# Altium integrated library ECS-100AX-010.IntLib: 1 symbol
Pins are listed as number, name and electrical type; pins without a type are passive.

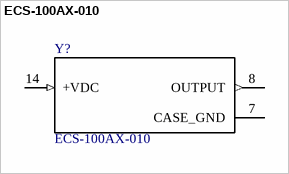
[diagram p0: symbol ECS-100AX-010]

## ECS-100AX-010
designator Y?
TH Crystal Oscillator 1MHz 4-Pin DIP; MF: ECS Inc.; Digi-Key_Purchase_URL: https://www.digikey.com/product-detail/en/ecs-inc/ECS-100AX-010/X937-ND/827230?utm_source=snapeda&utm_medium=aggregator&utm_campaign=symbol; Package: DIP-4 ECS Inc.; SnapEDA_Link: https://www.snapeda.com/parts/ECS-100AX-010/ECS%20Inc./view-part/?ref=snap; Digi-Key_Part_Number: X937-ND; MP: ECS-100AX-010; Value: *
footprint *OSC_ECS-100AX-010
pins: 7 CASE_GND (power), 8 OUTPUT (out), 14 +VDC (in)